# Altium schematic symbol library G51M08-P05QJ00-A080.SchLib: 1 symbol
Pins are listed as number, name and electrical type; pins without a type are passive.

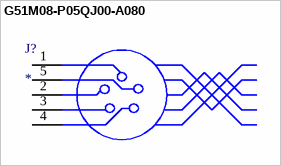
[diagram p0: symbol G51M08-P05QJ00-A080]

## G51M08-P05QJ00-A080
designator J?
Fixed receptacle with two nuts (back panel mounting), 90° print contacts, Key (G), P series, Multipole Type with 5 Contacts
footprint G51M08-P05QJ00-A080
pins: 1, 2, 3, 4, 5